# Altium footprint library QFN_Sq_40P_Side_N.PcbLib: 1 footprints
Each footprint in its own frame and in the unit in brackets; x right, y up, seen from the top. Pads: shape width x height; smd on the part's side, far side on the other; paste and mask are expansions set on the pad; w line width, h text height; cw(c..) or ccw(c..) is an arc to the next point about the centre after c.
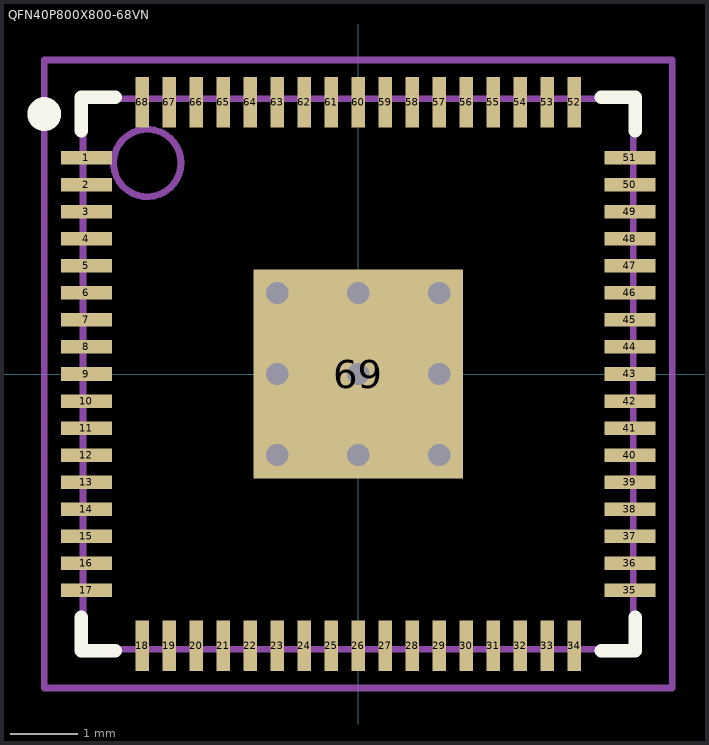
[diagram p0: the footprint, top view; thin cyan lines are the x and y axes]

## QFN40P800X800-68VN [mm] "QFN, 68-Leads, Body 8x8 mm, Pitch 0.4mm, IPC Medium Density"
height 1
pads (69):
  rect 0.75x0.2 smd: 1(-4.025,3.2) 2(-4.025,2.8) 3(-4.025,2.4) 4(-4.025,2) 5(-4.025,1.6) 6(-4.025,1.2) 7(-4.025,0.8) 8(-4.025,0.4) 9(-4.025,0) 10(-4.025,-0.4) 11(-4.025,-0.8) 12(-4.025,-1.2) 13(-4.025,-1.6) 14(-4.025,-2) 15(-4.025,-2.4) 16(-4.025,-2.8) 17(-4.025,-3.2) 35(4.025,-3.2) 36(4.025,-2.8) 37(4.025,-2.4) 38(4.025,-2) 39(4.025,-1.6) 40(4.025,-1.2) 41(4.025,-0.8) 42(4.025,-0.4) 43(4.025,0) 44(4.025,0.4) 45(4.025,0.8) 46(4.025,1.2) 47(4.025,1.6) 48(4.025,2) 49(4.025,2.4) 50(4.025,2.8) 51(4.025,3.2)
  rect 0.2x0.75 smd: 18(-3.2,-4.025) 19(-2.8,-4.025) 20(-2.4,-4.025) 21(-2,-4.025) 22(-1.6,-4.025) 23(-1.2,-4.025) 24(-0.8,-4.025) 25(-0.4,-4.025) 26(0,-4.025) 27(0.4,-4.025) 28(0.8,-4.025) 29(1.2,-4.025) 30(1.6,-4.025) 31(2,-4.025) 32(2.4,-4.025) 33(2.8,-4.025) 34(3.2,-4.025) 52(3.2,4.025) 53(2.8,4.025) 54(2.4,4.025) 55(2,4.025) 56(1.6,4.025) 57(1.2,4.025) 58(0.8,4.025) 59(0.4,4.025) 60(0,4.025) 61(-0.4,4.025) 62(-0.8,4.025) 63(-1.2,4.025) 64(-1.6,4.025) 65(-2,4.025) 66(-2.4,4.025) 67(-2.8,4.025) 68(-3.2,4.025)
  rect 3.1x3.1 smd: 69(0,0)
via -1.2,1.2 diameter 0.66 hole 0.33
via 0,1.2 diameter 0.66 hole 0.33
via 1.2,1.2 diameter 0.66 hole 0.33
via -1.2,0 diameter 0.66 hole 0.33
via 0,0 diameter 0.66 hole 0.33
via 1.2,0 diameter 0.66 hole 0.33
via -1.2,-1.2 diameter 0.66 hole 0.33
via 0,-1.2 diameter 0.66 hole 0.33
via 1.2,-1.2 diameter 0.66 hole 0.33
Top Overlay:
  circle w0.25: c-4.65,3.85 r0.125
  lines w0.2: -4.1,-3.6 -4.1,-4.1 -3.6,-4.1 ; -4.1,3.6 -4.1,4.1 -3.6,4.1 ; 3.6,-4.1 4.1,-4.1 4.1,-3.6 ; 3.6,4.1 4.1,4.1 4.1,3.6
Mechanical 13:
  circle w0.1: c-3.125,3.125 r0.5
  lines w0.1: -4.075,-4.075 -4.075,4.075 4.075,4.075 4.075,-4.075 -4.075,-4.075
Mechanical 15:
  lines w0.1: -0.5,0 0.5,0 ; 0,-0.5 0,0.5 ; -4.65,-4.65 -4.65,4.65 4.65,4.65 4.65,-4.65 -4.65,-4.65
3D body: height 1, standoff 0, extent -4.075,-4.075 4.075,4.075